# EAGLE library part S558-5999-Z5-F (library con-RJ45)
MODULE XFRMR LAN 10/100B-TX SMD Bel Fuse Inc
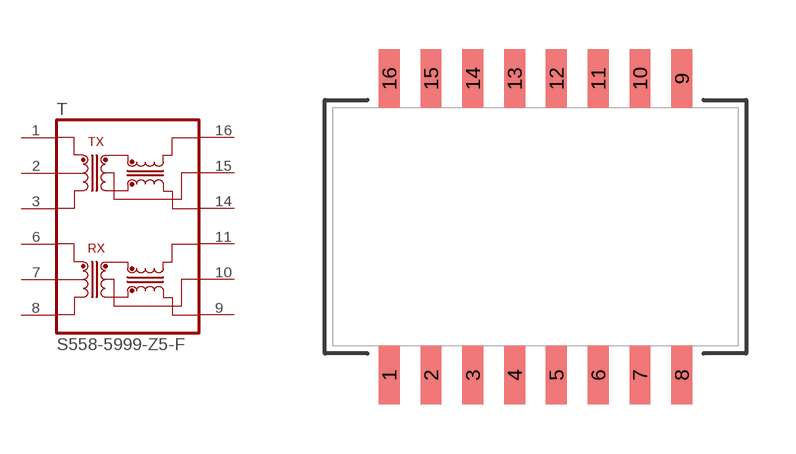
[diagram p1: symbol with the pads of S558-5999-Z5-F; footprint S558-5999-Z5-F]

Designator prefix T

## S558-5999-Z5-F (DIGIKEY: 507-1475-2-ND; P1I: o)  [S558-5999-Z5-F]
1  1  pas
2  2  pas
3  3  pas
6  6  pas
7  7  pas
8  8  pas
9  9  pas
10  10  pas
11  11  pas
14  14  pas
15  15  pas
16  16  pas

## Footprint S558-5999-Z5-F (pad centres in mm)
MODULE XFRMR LAN 10/100B-TX SMD Bel Fuse Inc
smd 0.635 x 1.778: 1 -4.445,-4.508; 2 -3.175,-4.508; 3 -1.905,-4.508; 4 -0.635,-4.508; 5 0.635,-4.508; 6 1.905,-4.508; 7 3.175,-4.508; 8 4.445,-4.508; 9 4.445,4.508; 10 3.175,4.508; 11 1.905,4.508; 12 0.635,4.508; 13 -0.635,4.508; 14 -1.905,4.508; 15 -3.175,4.508; 16 -4.445,4.508